# Altium schematic symbol library Beamformer.SchLib: 2 symbols
Pins are listed as number, name and electrical type; pins without a type are passive.

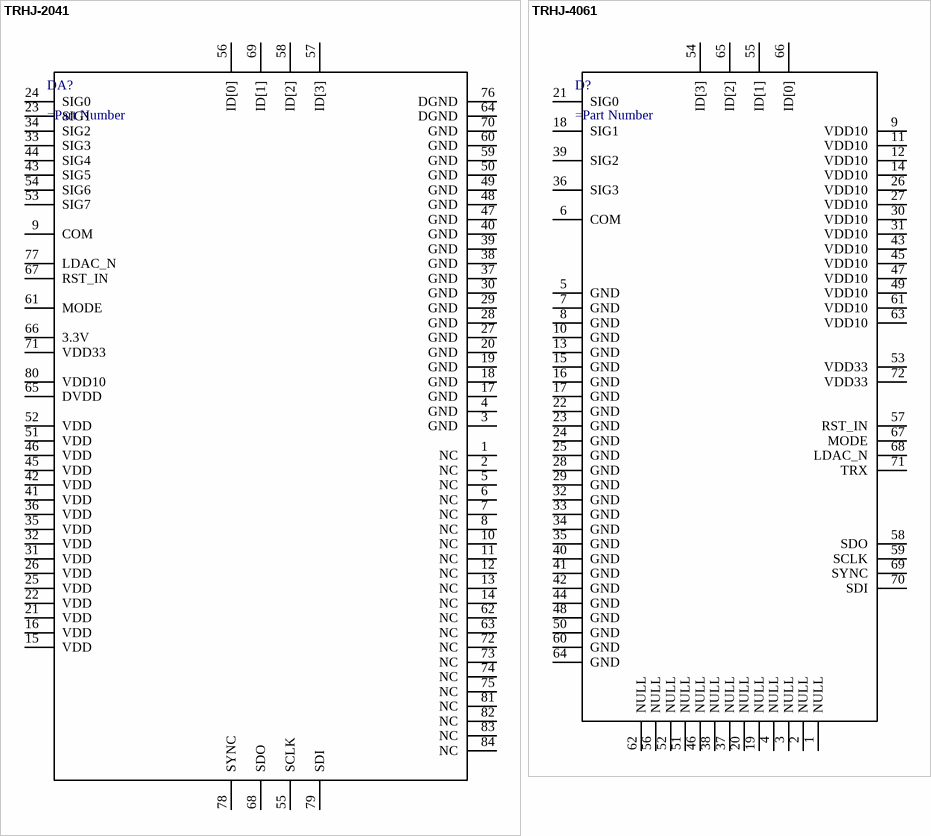
[diagram p0: symbols TRHJ-2041 to TRHJ-4061]

## TRHJ-2041
designator DA?
pins: 1 NC, 2 NC, 3 GND, 4 GND, 5 NC, 6 NC, 7 NC, 8 NC, 9 COM, 10 NC, 11 NC, 12 NC, 13 NC, 14 NC, 15 VDD, 16 VDD, 17 GND, 18 GND, 19 GND, 20 GND, 21 VDD, 22 VDD, 23 SIG1, 24 SIG0, 25 VDD, 26 VDD, 27 GND, 28 GND, 29 GND, 30 GND, 31 VDD, 32 VDD, 33 SIG3, 34 SIG2, 35 VDD, 36 VDD, 37 GND, 38 GND, 39 GND, 40 GND, 41 VDD, 42 VDD, 43 SIG5, 44 SIG4, 45 VDD, 46 VDD, 47 GND, 48 GND, 49 GND, 50 GND, 51 VDD, 52 VDD, 53 SIG7, 54 SIG6, 55 SCLK, 56 ID[0], 57 ID[3], 58 ID[2], 59 GND, 60 GND, 61 MODE, 62 NC, 63 NC, 64 DGND, 65 DVDD, 66 3.3V, 67 RST_IN, 68 SDO, 69 ID[1], 70 GND, 71 VDD33, 72 NC, 73 NC, 74 NC, 75 NC, 76 DGND, 77 LDAC_N, 78 SYNC, 79 SDI, 80 VDD10, 81 NC, 82 NC, 83 NC, 84 NC

## TRHJ-4061
designator D?
pins: 1 NULL, 2 NULL, 3 NULL, 4 NULL, 5 GND, 6 COM, 7 GND, 8 GND, 9 VDD10, 10 GND, 11 VDD10, 12 VDD10, 13 GND, 14 VDD10, 15 GND, 16 GND, 17 GND, 18 SIG1, 19 NULL, 20 NULL, 21 SIG0, 22 GND, 23 GND, 24 GND, 25 GND, 26 VDD10, 27 VDD10, 28 GND, 29 GND, 30 VDD10, 31 VDD10, 32 GND, 33 GND, 34 GND, 35 GND, 36 SIG3, 37 NULL, 38 NULL, 39 SIG2, 40 GND, 41 GND, 42 GND, 43 VDD10, 44 GND, 45 VDD10, 46 NULL, 47 VDD10, 48 GND, 49 VDD10, 50 GND, 51 NULL, 52 NULL, 53 VDD33, 54 ID[3], 55 ID[1], 56 NULL, 57 RST_IN, 58 SDO, 59 SCLK, 60 GND, 61 VDD10, 62 NULL, 63 VDD10, 64 GND, 65 ID[2], 66 ID[0], 67 MODE, 68 LDAC_N, 69 SYNC, 70 SDI, 71 TRX, 72 VDD33